# EAGLE library part CON_01X12 (library mfconnectors)
Library: MF_Connectors Description: Header Connector with 12 Positions and 01 Rows. Use the LABEL Attribute to label the pin on the schematic and PCB. You can remove the attributes on the PCB by using the SMASH function on the part and then deleting the text.
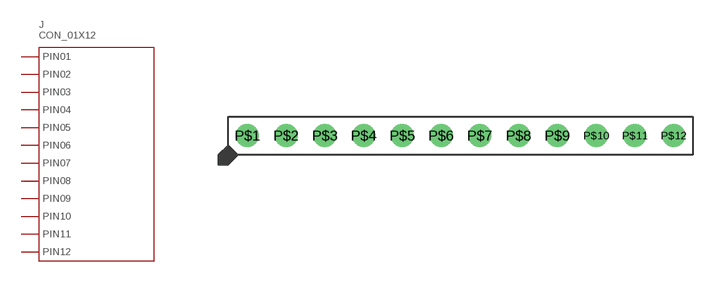
[diagram p9: symbol with the pads of PTH_2.54MM_01X12; footprint PTH_2.54MM_01X12]

Designator prefix J

## CON_01X12_PTH_2.54MM (HOUSEPART: YES; MPN: MF-CON-2.54mm-01x12; POPULATE: 1; URL: https://factory.macrofab.com/part/MF-CON-2.54mm-01x12; VALUE: MF-CON-2.54mm-01x12)  [PTH_2.54MM_01X12]
P$1  PIN1
P$2  PIN2
P$3  PIN3
P$4  PIN4
P$5  PIN5
P$6  PIN6
P$7  PIN7
P$8  PIN8
P$9  PIN9
P$10  PIN10
P$11  PIN11
P$12  PIN12

## Footprint PTH_2.54MM_01X12 (pad centres in mm)
Description: Package for 2.54MM Pitch Header 12 Position. Based on 4UCON 00834.
drill 1: P$1 -13.97,0; P$2 -11.43,0; P$3 -8.89,0; P$4 -6.35,0; P$5 -3.81,0; P$6 -1.27,0; P$7 1.27,0; P$8 3.81,0; P$9 6.35,0; P$10 8.89,0; P$11 11.43,0; P$12 13.97,0